# Altium schematic symbol library Buck-boost.SCHLIB: 39 symbols
Pins are listed as number, name and electrical type; pins without a type are passive.

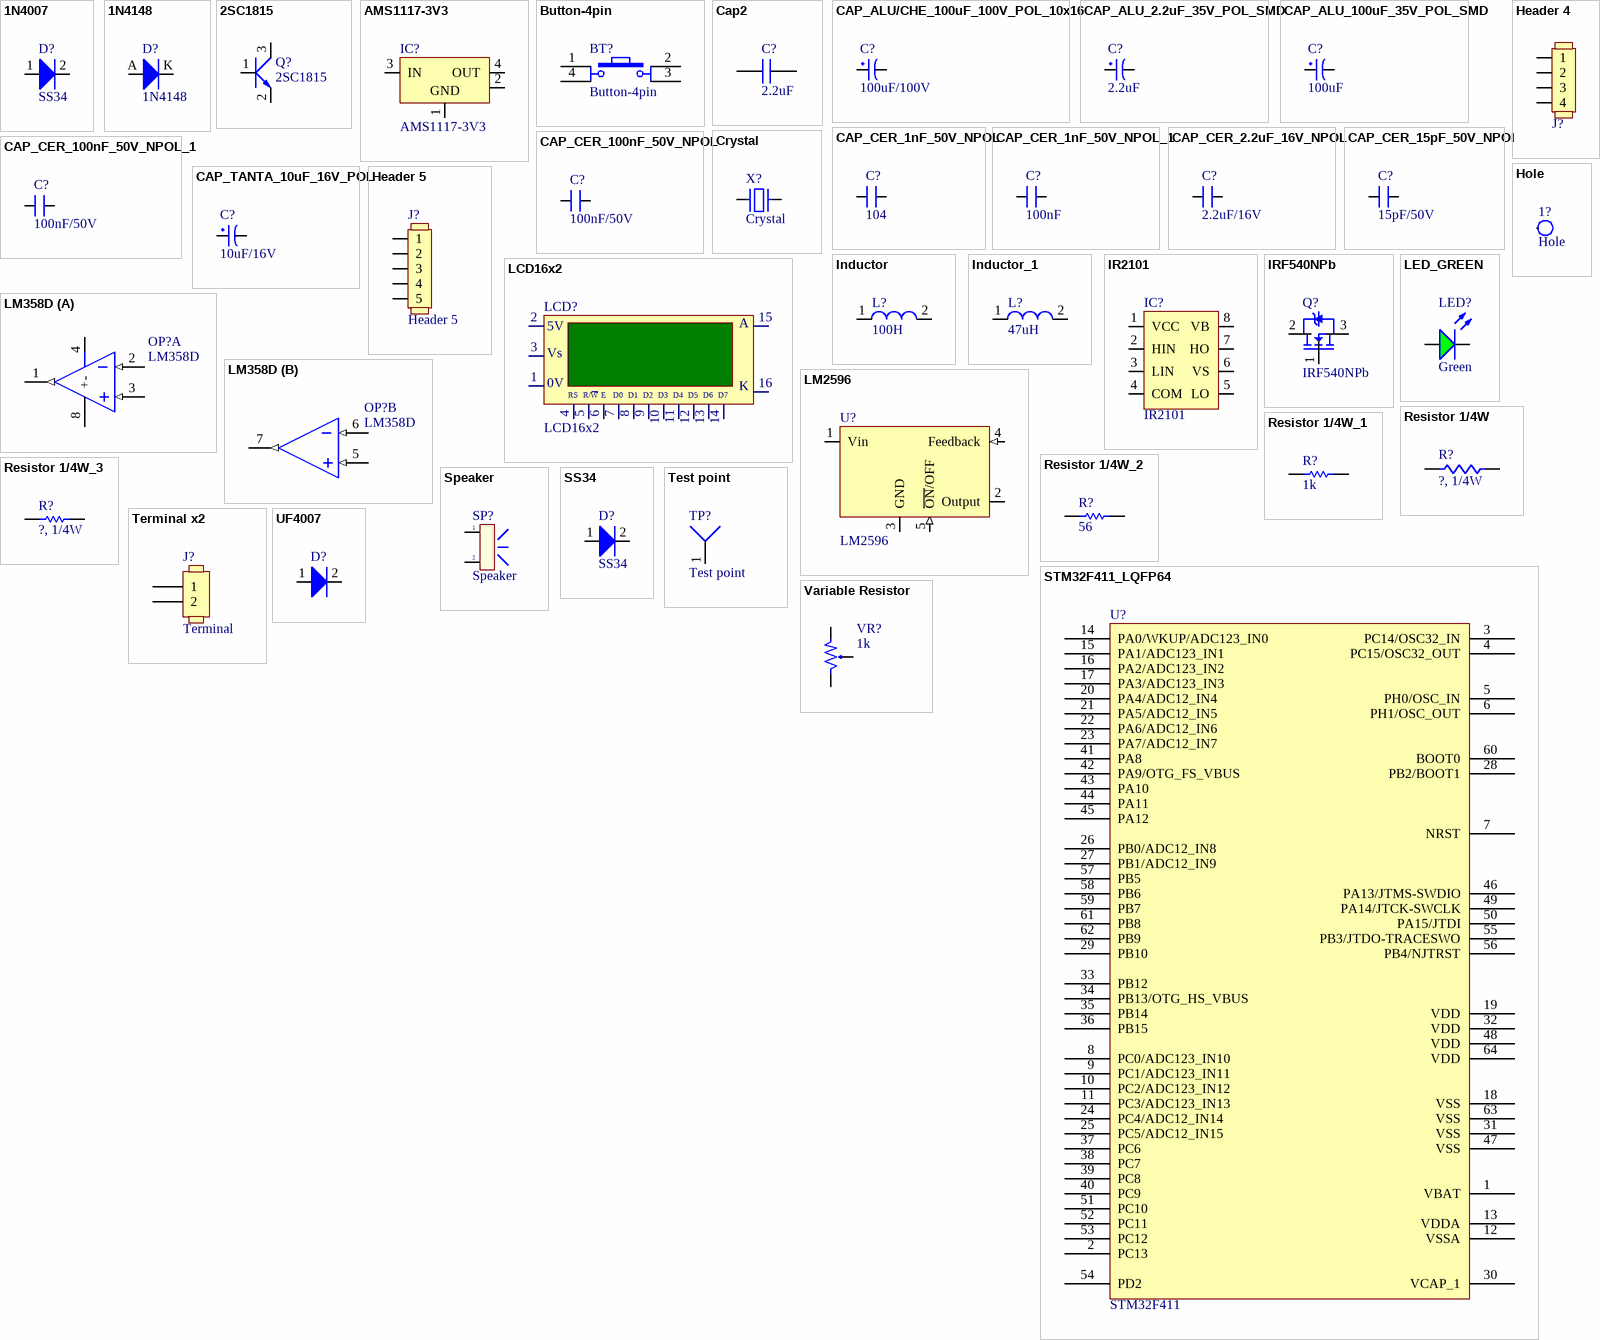
[diagram p0: symbols 1N4007 to Variable Resistor]

## 1N4007
designator D?, comment SS34
Diode LS 1A 1000V DO-41
footprint 1N4007 (DO-214AC)
pins: 1 A, 2 K

## 1N4148
designator D?
footprint LL34
pins: A 1, K 2

## 2SC1815
designator Q?
NPN
footprint 2SC1815-SMD (NPN-VCE=50V,IC=150mA)
pins: 1 B, 2 E, 3 C

## AMS1117-3V3
designator IC?
Linear Voltage Regulator 3.3V 1A 15V Max SOT-223; ComponentLink1Description: Datasheet; ComponentLink1URL: D:\Dropbox\Datasheets\Power Management ICs\Linear Regulators\AMS1117.pdf; Unit Price: 0.2000
footprint AMS1117
pins: 1 GND (power), 2 OUT (power), 3 IN (power), 4 OUT (power)

## Button-4pin
designator BT?
footprint Button 12x12x7.3mm
pins: 1, 2, 3, 4

## Cap2
designator C?, comment 2.2uF
Non_Polarized Capacitor
footprint CAP 0603(1508)
pins: 1, 2

## CAP_ALU/CHE_100uF_100V_POL_10x16
designator C?, comment 100uF/100V
footprint CAP_xUF_50V_TH_10x16 HORIZONTAL (Use for 220uF Capacitor Through Hole)
pins: 1, 2

## CAP_ALU_2.2uF_35V_POL_SMD
designator C?, comment 2.2uF
Aluminum Capacitor 2.2uF size B
footprint CAP_ALU_SIZEB (Panasonic Aluminum Capacitor)
pins: 1, 2

## CAP_ALU_100uF_35V_POL_SMD
designator C?, comment 100uF
Aluminum Capacitor 100uF size D
footprint CAP_ALU_SIZED8 (Panasonic Aluminum Capacitor)
pins: 1, 2

## CAP_CER_1nF_50V_NPOL
designator C?, comment 104
Ceramic Capacitor 1nF/50V (+-20% TH)/(+10%SMD)
footprint CAP 0603(1508) (Capacitor 0603)
pins: 1, 2

## CAP_CER_1nF_50V_NPOL_1
designator C?, comment 100nF
Ceramic Capacitor 1nF/50V (+-20% TH)/(+10%SMD)
footprint CAP 0603(1508) (Capacitor 0603)
footprint CAP 0603(1508) (Capacitor 0603)
pins: 1, 2

## CAP_CER_2.2uF_16V_NPOL
designator C?, comment 2.2uF/16V
Ceramic Capacitor 2.2uF/16V (+-10% TH)/(+10%SMD)
footprint CAP 0603(1508)
pins: 1, 2

## CAP_CER_15pF_50V_NPOL
designator C?, comment 15pF/50V
Ceramic Capacitor 15pF/50V (+-10% TH)/(+5%SMD)
footprint CAP 0603(1508) (Capacitor 0603)
pins: 1, 2

## CAP_CER_100nF_50V_NPOL
designator C?, comment 100nF/50V
Ceramic Capacitor 100nF/50V (+-20% TH)/(+10%SMD)
footprint CAP 0603(1508) (Capacitor 0603)
pins: 1, 2

## CAP_CER_100nF_50V_NPOL_1
designator C?, comment 100nF/50V
Ceramic Capacitor 100nF/50V (+-20% TH)/(+10%SMD)
footprint CAP 0603(1508) (Capacitor 0603)
footprint RES 0603(1508)
pins: 1, 2

## CAP_TANTA_10uF_16V_POL
designator C?, comment 10uF/16V
Tantalum SMD capacitor 10uF(+-10%),TAJA106K010RNJ
footprint CAP_TAN_1206(3216) (Tantalum Capacitor 1206)
pins: 1, 2

## Crystal
designator X?
Crystal through hole
footprint Crystal (HC-49/U-S)
pins: 1, 2

## Header 4
designator J?  (value not drawn)
footprint HEADER x4 (Header 4)
pins: 1, 2, 3, 4

## Header 5
designator J?
footprint HEADER x5 (Header 5)
pins: 1, 2, 3, 4, 5

## Hole
designator 1?
footprint Screw 3.0 (Hole 3.0mm)
pins: 1

## Inductor
designator L?, comment 100H
footprint Inductor SMD 12x12x8 mm
footprint Inductor SMD 48x48x28mm
footprint Inductor 5A
footprint Inductor 8x10
footprint INDUCTOR 5A LIE
pins: 1, 2

## Inductor_1
designator L?, comment 47uH
footprint Inductor SMD 12x12x8 mm
footprint Inductor SMD 48x48x28mm
pins: 1, 2

## IR2101
designator IC?
footprint IR2101 (DIP-8)
pins: 1 VCC, 2 HIN, 3 LIN, 4 COM, 5 LO, 6 VS, 7 HO, 8 VB

## IRF540NPb
designator Q?
footprint IRF540NPBF HORIZONTAL
pins: 1, 2 D, 3 S

## LCD16x2
designator LCD?
footprint LCD16x2 (header) (ADM1602K-NSW-FBS/3.3V)
footprint LCD16x2 (LCD dipslay 16x2, 16 pin)
pins: 1, 2, 3, 4, 5, 6, 7, 8, 9, 10, 11, 12, 13, 14, 15 VCC, 16
text: A; 5V; Vs; 0V; K; RS; R/W; E; D0; D1; D2; D3; D4; D5; D6; D7

## LED_GREEN
designator LED?  value Green  (hidden comment: LED_GREEN)
LED Green; ComponentLink1Description: Datasheet; ComponentLink1URL: D:\Dropbox\Datasheets\Opto and Illumination\LEDs\SMD LED.pdf; Unit Price: 0.0476
footprint LED3G3mm (LED 3mm_GREEN)
footprint LED0805GREEN (598 series)
pins: 1 A, 2 K

## LM358D
designator OP?
footprint SOIC8_600 (SOIC, 8-Leads, Body 4.90x3.90mm, Pitch 1.27mm, IPC Medium Density)
part A pins: 1 OUT (out), 2 IN- (in), 3 IN+ (in), 4 -, 8 + (power)
part B pins: 5 IN+ (in), 6 IN- (in), 7 OUT2 (out)

## LM2596
designator U?
Step-Down Switching Regulator 5V 3.0 A 15 V Max
footprint LM2596 (TO-263 -5  10.16x13.94, Pitch 1.7mm)
pins: 1 Vin (power), 2 Output (power), 3 GND (power), 4 Feedback (in), 5 ~{ON}/OFF (in)

## Resistor 1/4W
designator R?, comment ?, 1/4W
Resistor through hole 1/4W
footprint Res 0805(2012) (Resistor 0805)
footprint CR25S (Resistor 1/4W)
footprint RES 0603(1508) (Resistor 0603)
footprint RES 1206(3216) (Resistor 1206)
footprint RES 1210(3225) (Resistor 1210)
pins: 1, 2

## Resistor 1/4W_1
designator R?, comment 1k
Resistor through hole 1/4W
footprint Res 0805(2012) (Resistor 0805)
footprint CR25S (Resistor 1/4W)
footprint RES 0603(1508) (Resistor 0603)
footprint RES 1206(3216) (Resistor 1206)
footprint RES 1210(3225) (Resistor 1210)
footprint RES 2512(6332)
pins: 1, 2

## Resistor 1/4W_2
designator R?, comment 56
Resistor through hole 1/4W
footprint Res 0805(2012) (Resistor 0805)
footprint CR25S (Resistor 1/4W)
footprint RES 0603(1508) (Resistor 0603)
footprint RES 1206(3216) (Resistor 1206)
footprint RES 1210(3225) (Resistor 1210)
footprint RES 2512(6332)
footprint RES 0603(1508) (Resistor 0603)
pins: 1, 2

## Resistor 1/4W_3
designator R?, comment ?, 1/4W
Resistor through hole 1/4W
footprint Res 0805(2012) (Resistor 0805)
footprint CR25S (Resistor 1/4W)
footprint RES 0603(1508) (Resistor 0603)
footprint RES 1206(3216) (Resistor 1206)
footprint RES 1210(3225) (Resistor 1210)
footprint RES 2512(6332)
footprint 0402-RES
pins: 1, 2

## Speaker
designator SP?
Buzzer through hole (3V3/5V/12V)
footprint Speaker (TMB12A05)
footprint SPEAKER 2
pins: 1, 2

## SS34
designator D?
footprint SS34
pins: 1 A, 2 K

## STM32F411_LQFP64
designator U?, comment STM32F411
STM32F411_LQFP64
footprint LQFP64_L (Thin QFP, 64-Leads, Body 10x10mm, Pitch 0.5mm, IPC High Density)
footprint LQFP64_M (Thin QFP, 64-Leads, Body 10x10mm, Pitch 0.5mm, IPC Low Density)
footprint LQFP64_N (Thin QFP, 64-Leads, Body 10x10mm, Pitch 0.5mm, IPC Medium Density)
footprint STM-LQFP64_L (Thin QFP, 64-Leads, Body 10x10mm, Pitch 0.5mm, IPC High Density)
pins: 1 VBAT, 2 PC13, 3 PC14/OSC32_IN, 4 PC15/OSC32_OUT, 5 PH0/OSC_IN, 6 PH1/OSC_OUT, 7 NRST, 8 PC0/ADC123_IN10, 9 PC1/ADC123_IN11, 10 PC2/ADC123_IN12, 11 PC3/ADC123_IN13, 12 VSSA, 13 VDDA, 14 PA0/WKUP/ADC123_IN0, 15 PA1/ADC123_IN1, 16 PA2/ADC123_IN2, 17 PA3/ADC123_IN3, 18 VSS, 19 VDD, 20 PA4/ADC12_IN4, 21 PA5/ADC12_IN5, 22 PA6/ADC12_IN6, 23 PA7/ADC12_IN7, 24 PC4/ADC12_IN14, 25 PC5/ADC12_IN15, 26 PB0/ADC12_IN8, 27 PB1/ADC12_IN9, 28 PB2/BOOT1, 29 PB10, 30 VCAP_1, 31 VSS, 32 VDD, 33 PB12, 34 PB13/OTG_HS_VBUS, 35 PB14, 36 PB15, 37 PC6, 38 PC7, 39 PC8, 40 PC9, 41 PA8, 42 PA9/OTG_FS_VBUS, 43 PA10, 44 PA11, 45 PA12, 46 PA13/JTMS-SWDIO, 47 VSS, 48 VDD, 49 PA14/JTCK-SWCLK, 50 PA15/JTDI, 51 PC10, 52 PC11, 53 PC12, 54 PD2, 55 PB3/JTDO-TRACESWO, 56 PB4/NJTRST, 57 PB5, 58 PB6, 59 PB7, 60 BOOT0, 61 PB8, 62 PB9, 63 VSS, 64 VDD

## Terminal x2
designator J?, comment Terminal
Terminal x2
footprint Terminal x2 5mm (KF301 - 3P)
footprint Terminal x2 3.5mm
footprint Terminal x2 5mm (KF301 - 3P)
pins: 1, 2

## Test point
designator TP?
footprint Test_point_VIA06 (Test point do not mount)
pins: 1

## UF4007
designator D?  (value not drawn)
footprint DO204SMDDUAL
footprint DO204SMD
pins: 1 A, 2 K

## Variable Resistor
designator VR?, comment 1k
WH148
footprint VResistor (WH148)
footprint Trimmer 3262 (3262 trimmer)
pins: 1, 2, 3